# Altium schematic symbol library AP7313-30SRG-7.SchLib: 1 symbol
Pins are listed as number, name and electrical type; pins without a type are passive.

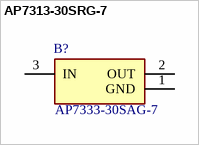
[diagram p0: symbol AP7313-30SRG-7]

## AP7313-30SRG-7
designator B?, comment AP7333-30SAG-7
LDO Voltage Regulators LDO SOT-23R 3.0V/150MA; Manufacturer_Name: Diodes Inc.; Manufacturer_Part_Number: AP7313-30SRG-7; Geometry.Height: 1.35mm; Mouser Part Number: 621-AP7313-30SRG-7; Mouser Price/Stock: https://www.mouser.co.uk/ProductDetail/Diodes-Incorporated/AP7313-30SRG-7?qs=vIZ3oKQCLxqUw9pohcYRgw%3D%3D; Arrow Part Number: *; Arrow Price/Stock: *; Datasheet Link: https://www.diodes.com/assets/Datasheets/AP7313.pdf
footprint SOT96P240X135-3N
pins: 1 GND, 2 OUT, 3 IN